# EAGLE library part EFM32GG11B8*M64 (library EFM32)
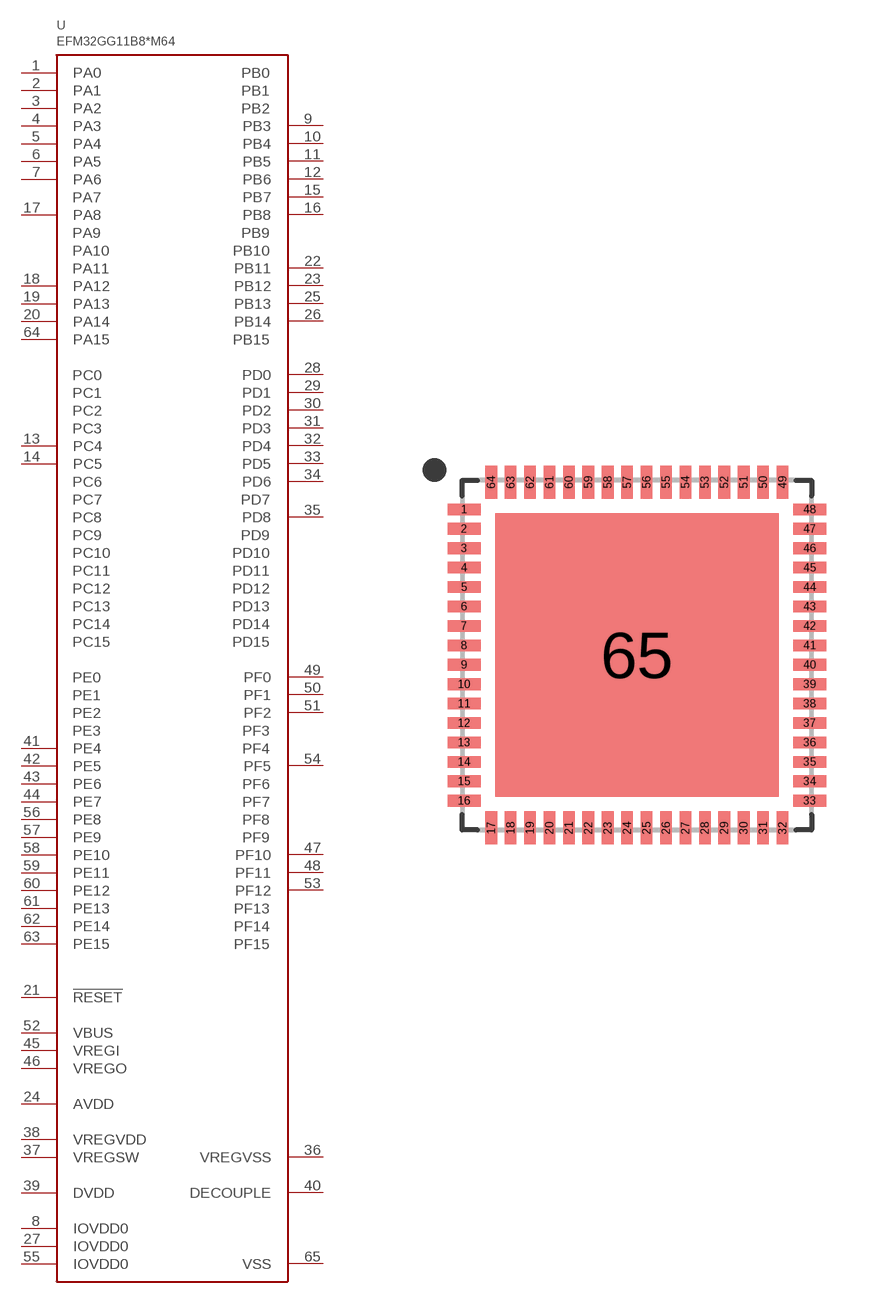
[diagram p25: symbol with the pads of QFN64; footprint QFN64]

Designator prefix U

## EFM32GG11B820F2048GM64, EFM32GG11B820F2048IM64, EFM32GG11B840F1024GM64, EFM32GG11B840F1024IM64  [QFN64]
1  PA0
2  PA1
3  PA2
4  PA3
5  PA4
6  PA5
7  PA6
8  IOVDD0
9  PB3
10  PB4
11  PB5
12  PB6
13  PC4
14  PC5
15  PB7
16  PB8
17  PA8
18  PA12
19  PA13
20  PA14
21  !RESET
22  PB11
23  PB12
24  AVDD
25  PB13
26  PB14
27  IOVDD0
28  PD0
29  PD1
30  PD2
31  PD3
32  PD4
33  PD5
34  PD6
35  PD8
36  VREGVSS
37  VREGSW
38  VREGVDD
39  DVDD
40  DECOUPLE
41  PE4
42  PE5
43  PE6
44  PE7
45  VREGI
46  VREGO
47  PF10
48  PF11
49  PF0
50  PF1
51  PF2
52  VBUS
53  PF12
54  PF5
55  IOVDD0
56  PE8
57  PE9
58  PE10
59  PE11
60  PE12
61  PE13
62  PE14
63  PE15
64  PA15
65  VSS

## Footprint QFN64 (pad centres in mm)
smd 0.85 x 0.3: 1 -4.45,3.75; 2 -4.45,3.25; 3 -4.45,2.75; 4 -4.45,2.25; 5 -4.45,1.75; 6 -4.45,1.25; 7 -4.45,0.75; 8 -4.45,0.25; 9 -4.45,-0.25; 10 -4.45,-0.75; 11 -4.45,-1.25; 12 -4.45,-1.75; 13 -4.45,-2.25; 14 -4.45,-2.75; 15 -4.45,-3.25; 16 -4.45,-3.75; 33 4.45,-3.75; 34 4.45,-3.25; 35 4.45,-2.75; 36 4.45,-2.25; 37 4.45,-1.75; 38 4.45,-1.25; 39 4.45,-0.75; 40 4.45,-0.25; 41 4.45,0.25; 42 4.45,0.75; 43 4.45,1.25; 44 4.45,1.75; 45 4.45,2.25; 46 4.45,2.75; 47 4.45,3.25; 48 4.45,3.75
smd 0.3 x 0.85: 17 -3.75,-4.45; 18 -3.25,-4.45; 19 -2.75,-4.45; 20 -2.25,-4.45; 21 -1.75,-4.45; 22 -1.25,-4.45; 23 -0.75,-4.45; 24 -0.25,-4.45; 25 0.25,-4.45; 26 0.75,-4.45; 27 1.25,-4.45; 28 1.75,-4.45; 29 2.25,-4.45; 30 2.75,-4.45; 31 3.25,-4.45; 32 3.75,-4.45; 49 3.75,4.45; 50 3.25,4.45; 51 2.75,4.45; 52 2.25,4.45; 53 1.75,4.45; 54 1.25,4.45; 55 0.75,4.45; 56 0.25,4.45; 57 -0.25,4.45; 58 -0.75,4.45; 59 -1.25,4.45; 60 -1.75,4.45; 61 -2.25,4.45; 62 -2.75,4.45; 63 -3.25,4.45; 64 -3.75,4.45
smd 7.3 x 7.3: 65 0,0